# EAGLE library part DPDT (library foe-scale)
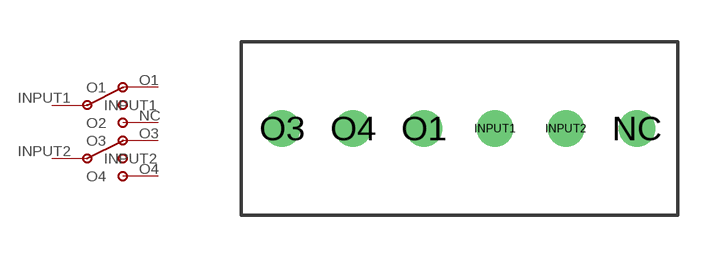
[diagram p7: symbol with the pads of SWITCHHEAD; footprint SWITCHHEAD]

Designator prefix SW

## DPDT  [SWITCHHEAD]
INPUT1  INPUT1
INPUT2  INPUT2
NC  O2
O1  O1
O3  O3
O4  O4

## Footprint SWITCHHEAD (pad centres in mm)
drill 0.8: INPUT1 1.27,0; INPUT2 3.81,0; NC 6.35,0; O1 -1.27,0; O3 -6.35,0; O4 -3.81,0